# Altium schematic symbol library ABS07-32.768KHZ-9-T.SchLib: 1 symbol
Pins are listed as number, name and electrical type; pins without a type are passive.

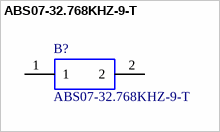
[diagram p0: symbol ABS07-32.768KHZ-9-T]

## ABS07-32.768KHZ-9-T
designator B?
Crystals 32.768KHz 9pF; Manufacturer_Name: ABRACON; Mouser Part Number: 815-ABS07-32.768K9T; Manufacturer_Part_Number: ABS07-32.768KHZ-9-T; Datasheet Link: https://componentsearchengine.com/Datasheets/1/ABS07-32.768KHZ-9-T.pdf
footprint ABS-07
pins: 1, 2